# Altium footprint library OnSemi.PcbLib: 1 footprints
Each footprint in its own frame and in the unit in brackets; x right, y up, seen from the top. Pads: shape width x height; smd on the part's side, far side on the other; paste and mask are expansions set on the pad; w line width, h text height; cw(c..) or ccw(c..) is an arc to the next point about the centre after c.
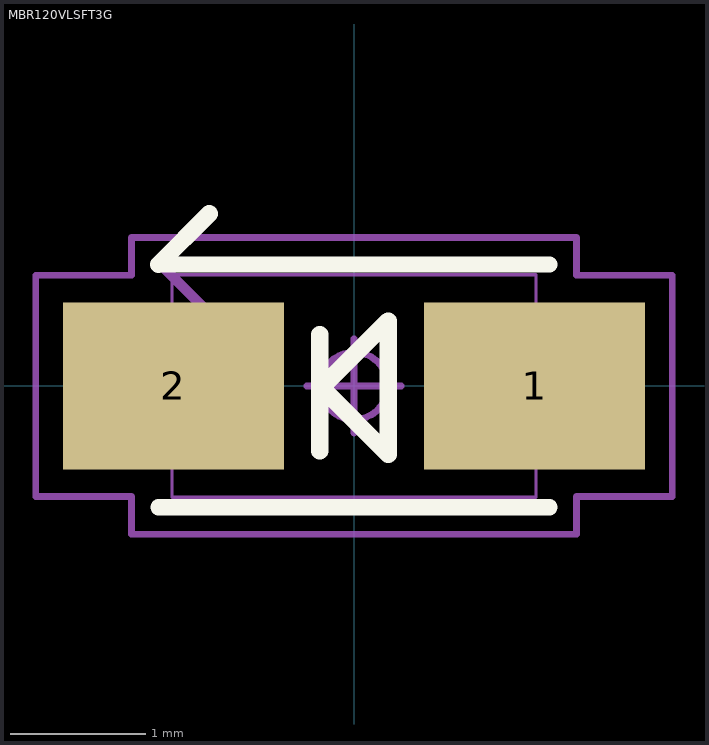
[diagram p0: the footprint, top view; thin cyan lines are the x and y axes]

## MBR120VLSFT3G [mm]
height 0.98
pads (2):
  rect 1.64x1.24 smd: 1(1.34,0) 2(-1.34,0)
Top Overlay:
  lines w0.12: -1.45,-0.9 1.45,-0.9 ; -1.45,0.9 1.45,0.9
  lines w0.127: -1.45,0.9 -1.073,1.277 ; -0.254,-0.483 -0.254,0.381 ; -0.254,-0.025 0.254,0.483 0.254,-0.508 -0.229,-0.025
Assembly Top:
  lines w0.05: -2.36,-0.82 -2.36,0.82 -1.65,0.82 -1.65,1.1 1.65,1.1 1.65,0.82 2.36,0.82 2.36,-0.82 1.65,-0.82 1.65,-1.1 -1.65,-1.1 -1.65,-0.82 -2.36,-0.82
  lines w0.076: -1.118,0.584 -1.422,0.889 1.448,0.889
  text ".designator" at -2.21,-0.635 h1.02
3D Top:
  lines w0.025: -1.8,-0.45 -1.05,-0.45 -1.05,0.45 -1.8,0.45 -1.8,-0.45 ; -1.35,-0.825 -1.35,0.825 1.35,0.825 1.35,-0.825 -1.35,-0.825 ; 1.05,-0.45 1.05,0.45 1.8,0.45 1.8,-0.45 1.05,-0.45
Courtyard Top:
  circle w0.05: c0,0 r0.25
  lines w0.05: -0.35,0 0.35,0 ; 0,-0.35 0,0.35 ; -2.36,-0.82 -2.36,0.82 -1.65,0.82 -1.65,1.1 1.65,1.1 1.65,0.82 2.36,0.82 2.36,-0.82 1.65,-0.82 1.65,-1.1 -1.65,-1.1 -1.65,-0.82 -2.36,-0.82
3D body: height 0.98, standoff 0, extent -1.8,-0.825 1.8,0.825